# EAGLE library part 74*17 (library U-7400)
Hex BUFFERS, open collector 40mA sink, 15V breakdown note: SN7407 has a 30V breakdown
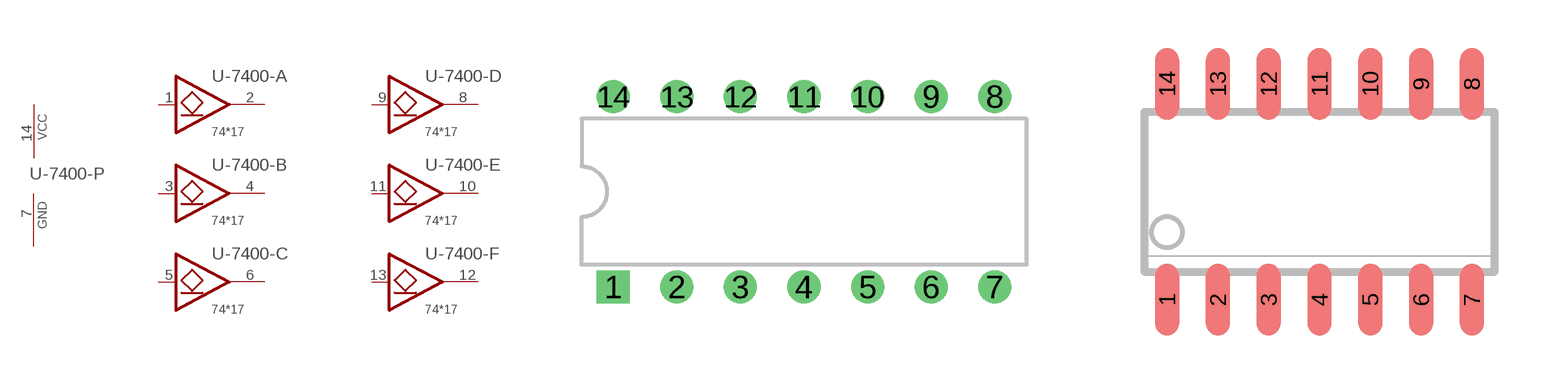
[diagram p316: symbol with the pads of 14DIP; footprints 14DIP, 14SOIC]

Designator prefix U-7400-; gates P=PWRN A=7407 B=7407 C=7407 D=7407 E=7407 F=7407

## 7417N  [14DIP]
1  A:I  in
2  A:O  oc
3  B:I  in
4  B:O  oc
5  C:I  in
6  C:O  oc
7  P:GND  pwr
8  D:O  oc
9  D:I  in
10  E:O  oc
11  E:I  in
12  F:O  oc
13  F:I  in
14  P:VCC  sup

## 7417D  [14SOIC]
Pads as for 14DIP

## Footprint 14DIP (pad centres in mm)
14POS Dual In-line Package
drill 0.813 square: 1 -7.62,-3.81
drill 0.813: 2 -5.08,-3.81; 3 -2.54,-3.81; 4 0,-3.81; 5 2.54,-3.81; 6 5.08,-3.81; 7 7.62,-3.81; 8 7.62,3.81; 9 5.08,3.81; 10 2.54,3.81; 11 0,3.81; 12 -2.54,3.81; 13 -5.08,3.81; 14 -7.62,3.81

## Footprint 14SOIC (pad centres in mm)
14POS SMALL OUTLINE (14SO[IC]) pitch 1.27 pad .6mm X1.8mm body-Center to pad-Center 2.7mm referance TI's SOIC package, but pads are little larger and rounded
smd 0.6 x 1.8: 1 -3.81,-2.7; 2 -2.54,-2.7; 3 -1.27,-2.7; 4 0,-2.7; 5 1.27,-2.7; 6 2.54,-2.7; 7 3.81,-2.7; 8 3.81,2.7; 9 2.54,2.7; 10 1.27,2.7; 11 0,2.7; 12 -1.27,2.7; 13 -2.54,2.7; 14 -3.81,2.7